# Altium footprint library AOZ1360AIL.PcbLib: 3 footprints
Each footprint in its own frame and in the unit in brackets; x right, y up, seen from the top. Pads: shape width x height; smd on the part's side, far side on the other; paste and mask are expansions set on the pad; w line width, h text height; cw(c..) or ccw(c..) is an arc to the next point about the centre after c.
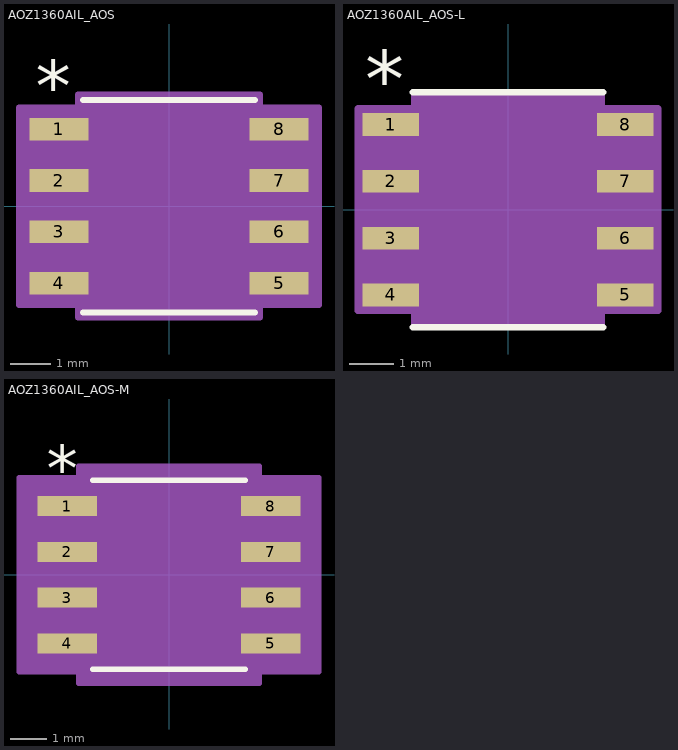
[diagram p0: the footprints below, top view; thin cyan lines are the x and y axes]

## AOZ1360AIL_AOS [mil]
pads (8):
  rect 57.55x22 smd paste+0 mask+0: 1(-107.27,75) 2(-107.27,25) 3(-107.27,-25) 4(-107.27,-75) 5(107.27,-75) 6(107.27,-25) 7(107.27,25) 8(107.27,75)
Top Overlay:
  lines w6: -83.5,-103.5 83.5,-103.5 ; -83.5,103.5 83.5,103.5
  text "*" at -129.77,92 h50
Mechanical 13:
  lines w0: -12,98.5 ccw(c0,98.5) 12,98.5
  lines w1: -122.05,-85 -122.05,-65 -78.5,-65 -78.5,-85 -122.05,-85 ; -122.05,-35 -122.05,-15 -78.5,-15 -78.5,-35 -122.05,-35 ; -122.05,15 -122.05,35 -78.5,35 -78.5,15 -122.05,15 ; -122.05,65 -122.05,85 -78.5,85 -78.5,65 -122.05,65 ; -78.5,-98.5 78.5,-98.5 78.5,98.5 -78.5,98.5 -78.5,-98.5 ; 78.5,-85 78.5,-65 122.05,-65 122.05,-85 78.5,-85 ; 78.5,-35 78.5,-15 122.05,-15 122.05,-35 78.5,-35 ; 78.5,15 78.5,35 122.05,35 122.05,15 78.5,15 ; 78.5,65 78.5,85 122.05,85 122.05,65 78.5,65
  text "*" at -76,45.5 h50
Mechanical 15:
  region: -88.5,-96 -146.05,-96 -146.05,96 -88.5,96 -88.5,108.5 88.5,108.5 88.5,96 146.05,96 146.05,-96 88.5,-96 88.5,-108.5 -88.5,-108.5
  lines w6: -146.05,-96 -146.05,96 -88.5,96 -88.5,108.5 88.5,108.5 88.5,96 146.05,96 146.05,-96 88.5,-96 88.5,-108.5 -88.5,-108.5 -88.5,-96 -146.05,-96
3D body "AOZ1360AIL_AOS.step": height 69.09, standoff 0, extent -122.05,-98.5 122.05,98.5

## AOZ1360AIL_AOS-L [mil]
pads (8):
  rect 49.55x20 smd paste+0 mask+0: 1(-103.27,75) 2(-103.27,25) 3(-103.27,-25) 4(-103.27,-75) 5(103.27,-75) 6(103.27,-25) 7(103.27,25) 8(103.27,75)
Top Overlay:
  lines w6: -83.5,-103.5 83.5,-103.5 ; -83.5,103.5 83.5,103.5
  text "*" at -125.77,90 h50
Mechanical 13:
  lines w0: -12,98.5 ccw(c0,98.5) 12,98.5
  lines w1: -122.05,-85 -122.05,-65 -78.5,-65 -78.5,-85 -122.05,-85 ; -122.05,-35 -122.05,-15 -78.5,-15 -78.5,-35 -122.05,-35 ; -122.05,15 -122.05,35 -78.5,35 -78.5,15 -122.05,15 ; -122.05,65 -122.05,85 -78.5,85 -78.5,65 -122.05,65 ; -78.5,-98.5 78.5,-98.5 78.5,98.5 -78.5,98.5 -78.5,-98.5 ; 78.5,-85 78.5,-65 122.05,-65 122.05,-85 78.5,-85 ; 78.5,-35 78.5,-15 122.05,-15 122.05,-35 78.5,-35 ; 78.5,15 78.5,35 122.05,35 122.05,15 78.5,15 ; 78.5,65 78.5,85 122.05,85 122.05,65 78.5,65
  text "*" at -76,45.5 h50
Mechanical 15:
  region: -82.5,-89 -132.05,-89 -132.05,89 -82.5,89 -82.5,102.5 82.5,102.5 82.5,89 132.05,89 132.05,-89 82.5,-89 82.5,-102.5 -82.5,-102.5
  lines w6: -132.05,-89 -132.05,89 -82.5,89 -82.5,102.5 82.5,102.5 82.5,89 132.05,89 132.05,-89 82.5,-89 82.5,-102.5 -82.5,-102.5 -82.5,-89 -132.05,-89
3D body "AOZ1360AIL_AOS.step": height 69.09, standoff 0, extent -122.05,-98.5 122.05,98.5

## AOZ1360AIL_AOS-M [mil]
pads (8):
  rect 65.55x22 smd paste+0 mask+0: 1(-111.27,75) 2(-111.27,25) 3(-111.27,-25) 4(-111.27,-75) 5(111.27,-75) 6(111.27,-25) 7(111.27,25) 8(111.27,75)
Top Overlay:
  lines w6: -83.5,-103.5 83.5,-103.5 ; -83.5,103.5 83.5,103.5
  text "*" at -133.77,92 h50
Mechanical 13:
  lines w0: -12,98.5 ccw(c0,98.5) 12,98.5
  lines w1: -122.05,-85 -122.05,-65 -78.5,-65 -78.5,-85 -122.05,-85 ; -122.05,-35 -122.05,-15 -78.5,-15 -78.5,-35 -122.05,-35 ; -122.05,15 -122.05,35 -78.5,35 -78.5,15 -122.05,15 ; -122.05,65 -122.05,85 -78.5,85 -78.5,65 -122.05,65 ; -78.5,-98.5 78.5,-98.5 78.5,98.5 -78.5,98.5 -78.5,-98.5 ; 78.5,-85 78.5,-65 122.05,-65 122.05,-85 78.5,-85 ; 78.5,-35 78.5,-15 122.05,-15 122.05,-35 78.5,-35 ; 78.5,15 78.5,35 122.05,35 122.05,15 78.5,15 ; 78.5,65 78.5,85 122.05,85 122.05,65 78.5,65
  text "*" at -76,45.5 h50
Mechanical 15:
  region: -98.5,-106 -164.05,-106 -164.05,106 -98.5,106 -98.5,118.5 98.5,118.5 98.5,106 164.05,106 164.05,-106 98.5,-106 98.5,-118.5 -98.5,-118.5
  lines w6: -164.05,-106 -164.05,106 -98.5,106 -98.5,118.5 98.5,118.5 98.5,106 164.05,106 164.05,-106 98.5,-106 98.5,-118.5 -98.5,-118.5 -98.5,-106 -164.05,-106
3D body "AOZ1360AIL_AOS.step": height 69.09, standoff 0, extent -122.05,-98.5 122.05,98.5